# Altium schematic symbol library esp32_radar.SCHLIB: 10 symbols
Pins are listed as number, name and electrical type; pins without a type are passive.

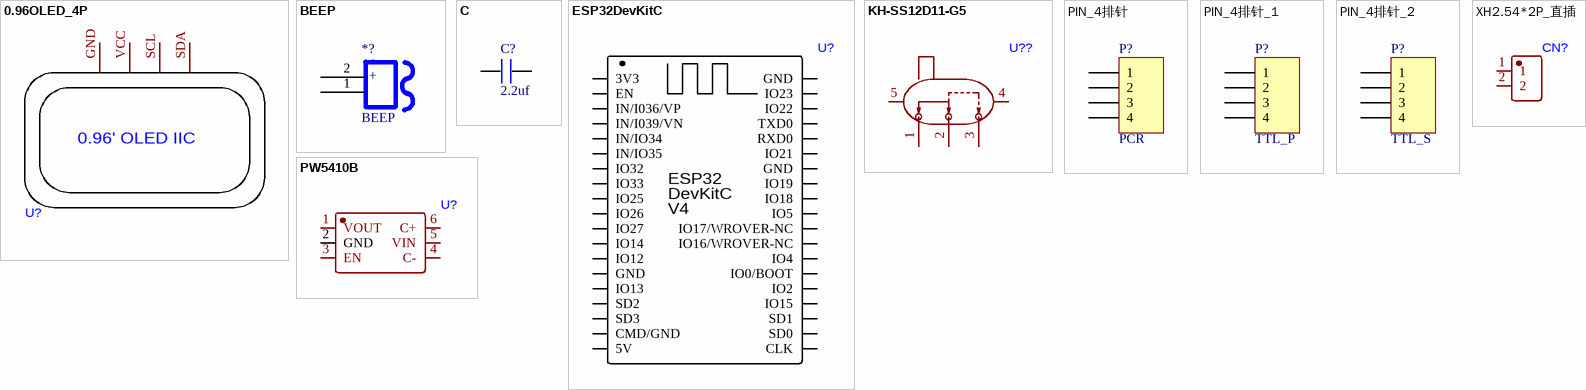
[diagram p0: symbols 0.96OLED_4P to XH2.54*2P_直插]

## 0.96OLED_4P
designator U?
footprint oled (Footprint not found)
pins: GND, SCL, SDA, VCC
text: 0.96' OLED IIC

## BEEP
designator *?
footprint beep (蜂鸣器)
pins: 1, 2
text: +

## C
designator C?, comment 2.2uf
footprint 0402C
footprint 1206C
footprint C_0603 (Chip Resistor, 2-Leads, Body 1.6x0.8mm, IPC Medium Density)
footprint C_0805
footprint cap (独石电容)
footprint cap1 (瓷介电容 105)
footprint cap2 (瓷介电容30Pf)
pins: 1, 2

## ESP32DevKitC
designator U?
footprint ESP32DEVKITC (Footprint not found)
pins: 1 3V3, 2 EN, 3 IN/I036/VP, 4 IN/I039/VN, 5 IN/IO34, 6 IN/IO35, 7 IO32, 8 IO33, 9 IO25, 10 IO26, 11 IO27, 12 IO14, 13 IO12, 14 GND, 15 IO13, 16 SD2, 17 SD3, 18 CMD/GND, 19 5V, 20 CLK, 21 SD0, 22 SD1, 23 IO15, 24 IO2, 25 IO0/BOOT, 26 IO4, 27 IO16/WROVER-NC, 28 IO17/WROVER-NC, 29 IO5, 30 IO18, 31 IO19, 32 GND, 33 IO21, 34 RXD0, 35 TXD0, 36 IO22, 37 IO23, 38 GND
text: ESP32; DevKitC; V4

## KH-SS12D11-G5
designator U??
footprint SW-TH_KH-SS12D11-G5
pins: 1, 2, 3, 4, 5

## PIN_4排针
designator P?, comment PCR
footprint PIN-4脚排针
footprint PIN_4脚排针
pins: 1, 2, 3, 4

## PIN_4排针_1
designator P?, comment TTL_P
footprint PIN-4脚排针
footprint PIN_4脚排针
pins: 1, 2, 3, 4

## PIN_4排针_2
designator P?, comment TTL_S
footprint PIN-4脚排针
footprint PIN_4脚排针
pins: 1, 2, 3, 4

## PW5410B
designator U?
footprint SOT-23-6_L2.9-W1.6-P0.95-LS2.8-BL-1 (Footprint not found)
pins: 1 VOUT, 2 GND, 3 EN, 4 C-, 5 VIN, 6 C+

## XH2.54*2P_直插
designator CN?
footprint CONN-TH_2P-P2.50-XH2.54-2P (Footprint not found)
pins: 1, 2